# EAGLE library part SA08-11 (library bodger)
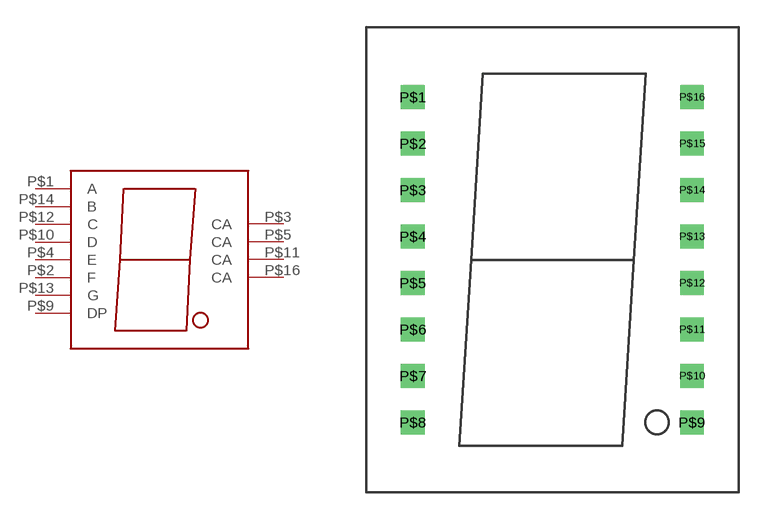
[diagram p23: symbol with the pads of SA08-11; footprint SA08-11]

Designator prefix -

## SA08-11  [SA08-11]
P$1  A
P$2  F
P$3  CA
P$4  E
P$5  CA
P$9  DP
P$10  D
P$11  CA
P$12  C
P$13  G
P$14  B
P$16  CA

## Footprint SA08-11 (pad centres in mm)
drill 0.8 square: P$1 -7.62,10.16; P$2 -7.62,7.62; P$3 -7.62,5.08; P$4 -7.62,2.54; P$5 -7.62,0; P$6 -7.62,-2.54; P$7 -7.62,-5.08; P$8 -7.62,-7.62; P$9 7.62,-7.62; P$10 7.62,-5.08; P$11 7.62,-2.54; P$12 7.62,0; P$13 7.62,2.54; P$14 7.62,5.08; P$15 7.62,7.62; P$16 7.62,10.16